# Altium footprint library TPS2116DRLR.PcbLib: 1 footprints
Each footprint in its own frame and in the unit in brackets; x right, y up, seen from the top. Pads: shape width x height; smd on the part's side, far side on the other; paste and mask are expansions set on the pad; w line width, h text height; cw(c..) or ccw(c..) is an arc to the next point about the centre after c.
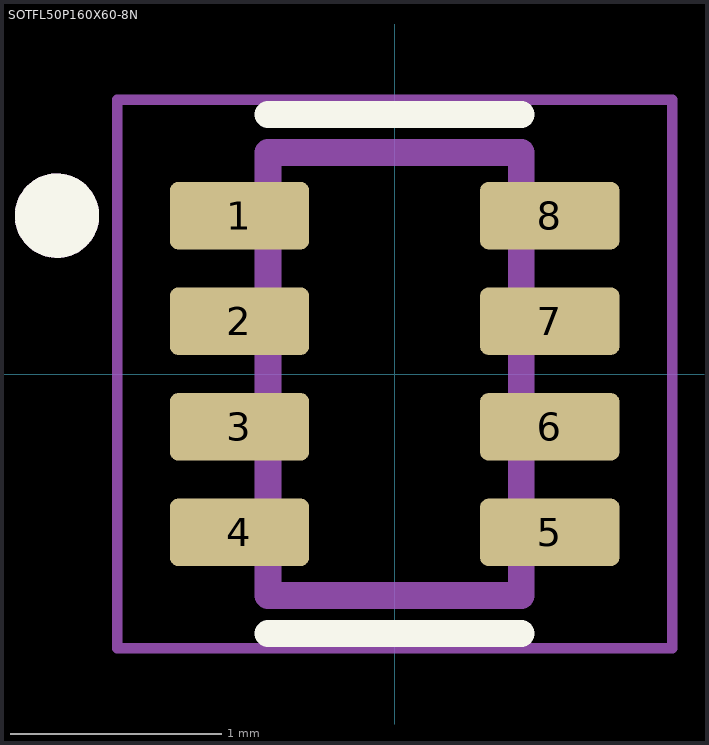
[diagram p0: the footprint, top view; thin cyan lines are the x and y axes]

## SOTFL50P160X60-8N [mm]
pads (8):
  rrect25% 0.66x0.32 smd: 1(-0.735,0.75) 2(-0.735,0.25) 3(-0.735,-0.25) 4(-0.735,-0.75) 5(0.735,-0.75) 6(0.735,-0.25) 7(0.735,0.25) 8(0.735,0.75)
Top Overlay:
  circle w0.2: c-1.6,0.75 r0.1
  lines w0.127: -0.6,-1.23 0.6,-1.23 ; -0.6,1.23 0.6,1.23
Mechanical 13:
  circle w0.2: c-1.6,0.75 r0.1
  lines w0.127: -0.6,-1.05 0.6,-1.05 0.6,1.05 -0.6,1.05 -0.6,-1.05
Mechanical 15:
  lines w0.05: -1.315,-1.3 1.315,-1.3 1.315,1.3 -1.315,1.3 -1.315,-1.3